# Altium footprint library AMASS_XT60PW-M.PcbLib: 1 footprints
Each footprint in its own frame and in the unit in brackets; x right, y up, seen from the top. Pads: shape width x height; smd on the part's side, far side on the other; paste and mask are expansions set on the pad; w line width, h text height; cw(c..) or ccw(c..) is an arc to the next point about the centre after c.
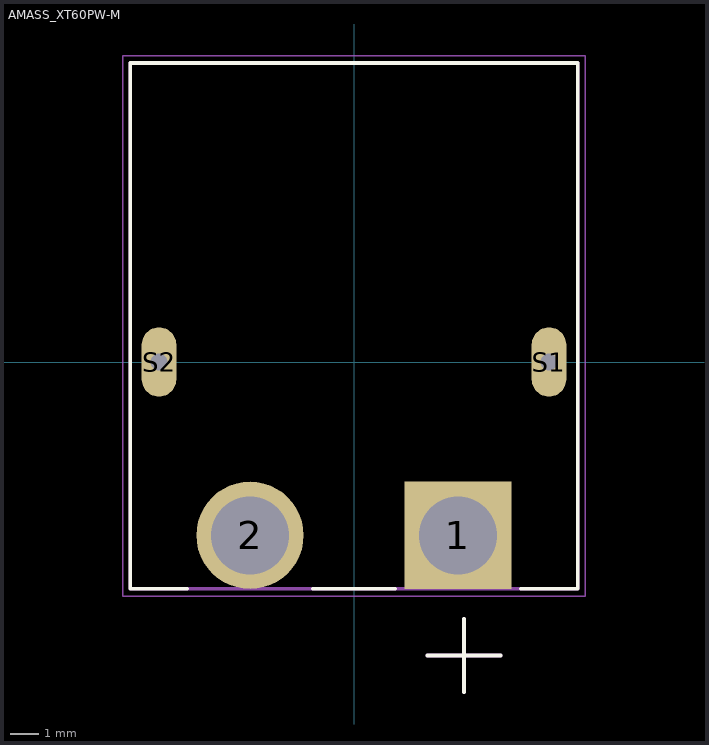
[diagram p0: the footprint, top view; thin cyan lines are the x and y axes]

## AMASS_XT60PW-M [mm]
pads (4):
  rect 3.716x3.716 hole 2.7: 1(3.6,-6)
  round 3.716 hole 2.7: 2(-3.6,-6)
  oval 1.2x2.4 hole 0.6 square: S1(6.75,0) S2(-6.75,0)
Top Overlay:
  lines w0.127: -5.778,-7.85 -7.75,-7.85 -7.75,10.35 7.75,10.35 7.75,-7.85 5.778,-7.85 ; -1.422,-7.85 1.422,-7.85 ; 2.54,-10.16 3.81,-10.16 ; 3.81,-11.43 3.81,-10.16 ; 3.81,-8.89 3.81,-10.16 ; 5.08,-10.16 3.81,-10.16
Mechanical 13:
  lines w0.127: 2.54,-10.16 3.81,-10.16 ; 3.81,-11.43 3.81,-10.16 ; 3.81,-8.89 3.81,-10.16 ; 5.08,-10.16 3.81,-10.16 ; -7.75,-7.85 7.75,-7.85 7.75,10.35 -7.75,10.35 -7.75,-7.85
Mechanical 15:
  lines w0.05: -8,-8.11 8,-8.11 8,10.6 -8,10.6 -8,-8.11
3D body "step_temp.STEP": height 4.2, standoff -6.75, extent -7.75,-7.874 7.75,10.326